# Altium schematic symbol library SnapEDAsch.SchLib: 1 symbol
Pins are listed as number, name and electrical type; pins without a type are passive.

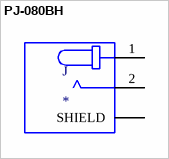
[diagram p0: symbol PJ-080BH]

## PJ-080BH
designator J
2.5 x 6.4 mm, 10.0 A, Horizontal, Through Hole, Shielded, Dc Power Jack Connector; MF: CUI Devices; MP: PJ-080BH; Package: None; Availability: Unavailable; Value: *; CUI_purchase_URL: https://www.cuidevices.com/product/interconnect/connectors/dc-power-connectors/jacks/pj-080bh?utm_source=snapeda.com&utm_medium=referral&utm_campaign=snapedaBOM; SnapEDA_Link: https://www.snapeda.com/parts/PJ-080BH/CUI%20Devices/view-part/696898/?ref=snap; Price: None
footprint CUI_PJ-080BH
pins: 1, 2, 3 SHIELD, 4 SHIELD, 5 SHIELD, 6 SHIELD